# Altium integrated library ST Memory EEPROM Flash.IntLib: 1183 symbols (part 2 of 27)
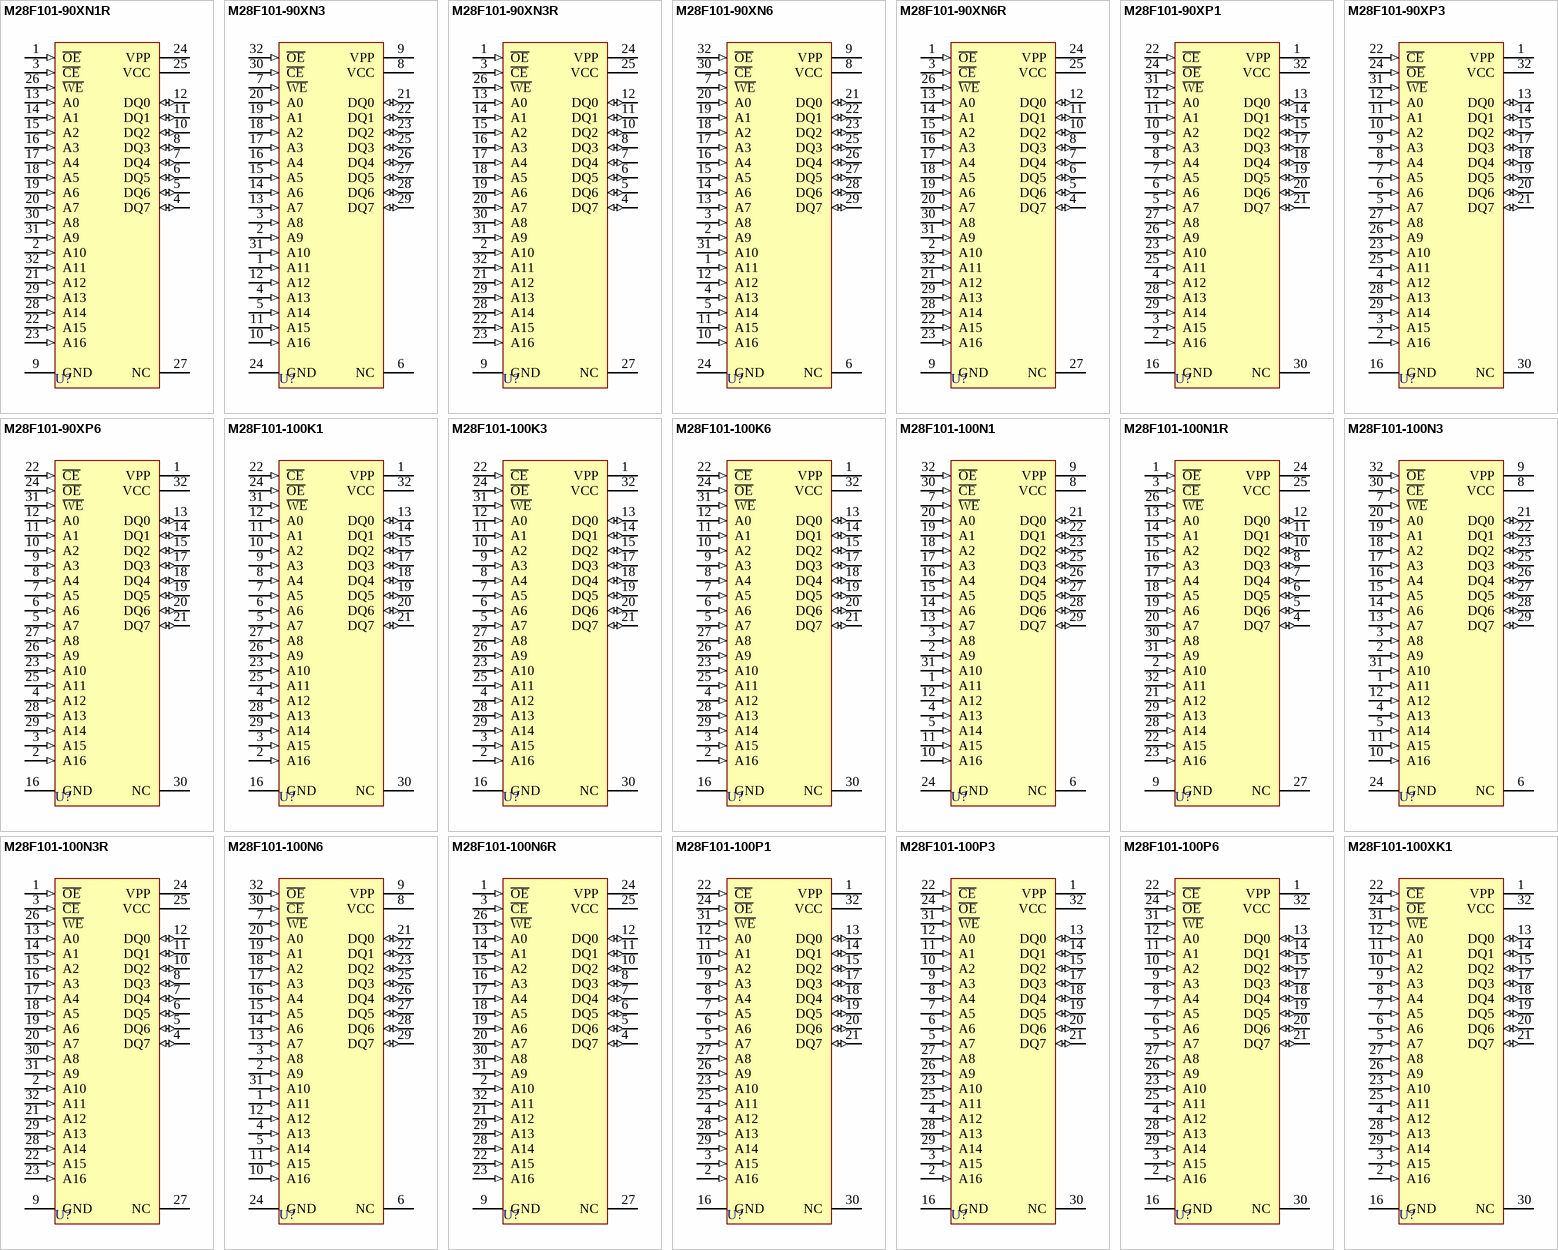
[diagram p82: symbols M28F101-90XN1R to M28F101-100XK1]

## M28F101-100K1
designator U?
1 Mbit (128K x 8, Chip Erase) Flash Memory; Published: 24-Aug-2001; LatestRevisionDate: 6-Jun-2005; LatestRevisionNote: Stylized 3D Model Added.; DatasheetDocument: Apr-1997; PackageDocument: Jun-1998; PackageReference: PLCC32; Publisher: Altium Limited; Code_JEDEC: MS-016-AE; Code_IPC: PLCC/R-32; ComponentLink1Description: Manufacturer Link; ComponentLink1URL: http://www.st.com/
footprint PLCC32 (Leaded Chip Carrier; 32 Leads; Body 11.4 x 14 mm)
3D model M28F101-PLCC32 (Leaded Chip Carrier; 32 Leads; Body 11.4 x 14 mm)
pins: 1 VPP (power), 2 A16 (in), 3 A15 (in), 4 A12 (in), 5 A7 (in), 6 A6 (in), 7 A5 (in), 8 A4 (in), 9 A3 (in), 10 A2 (in), 11 A1 (in), 12 A0 (in), 13 DQ0 (io), 14 DQ1 (io), 15 DQ2 (io), 16 GND (power), 17 DQ3 (io), 18 DQ4 (io), 19 DQ5 (io), 20 DQ6 (io), 21 DQ7 (io), 22 ~{CE} (in), 23 A10 (in), 24 ~{OE} (in), 25 A11 (in), 26 A9 (in), 27 A8 (in), 28 A13 (in), 29 A14 (in), 30 NC, 31 ~{WE} (in), 32 VCC (power)

## M28F101-100K3
designator U?
1 Mbit (128K x 8, Chip Erase) Flash Memory; Published: 24-Aug-2001; LatestRevisionDate: 6-Jun-2005; LatestRevisionNote: Stylized 3D Model Added.; DatasheetDocument: Apr-1997; PackageDocument: Jun-1998; PackageReference: PLCC32; Publisher: Altium Limited; Code_JEDEC: MS-016-AE; Code_IPC: PLCC/R-32; ComponentLink1Description: Manufacturer Link; ComponentLink1URL: http://www.st.com/
footprint PLCC32 (Leaded Chip Carrier; 32 Leads; Body 11.4 x 14 mm)
3D model M28F101-PLCC32 (Leaded Chip Carrier; 32 Leads; Body 11.4 x 14 mm)
pins: 1 VPP (power), 2 A16 (in), 3 A15 (in), 4 A12 (in), 5 A7 (in), 6 A6 (in), 7 A5 (in), 8 A4 (in), 9 A3 (in), 10 A2 (in), 11 A1 (in), 12 A0 (in), 13 DQ0 (io), 14 DQ1 (io), 15 DQ2 (io), 16 GND (power), 17 DQ3 (io), 18 DQ4 (io), 19 DQ5 (io), 20 DQ6 (io), 21 DQ7 (io), 22 ~{CE} (in), 23 A10 (in), 24 ~{OE} (in), 25 A11 (in), 26 A9 (in), 27 A8 (in), 28 A13 (in), 29 A14 (in), 30 NC, 31 ~{WE} (in), 32 VCC (power)

## M28F101-100K6
designator U?
1 Mbit (128K x 8, Chip Erase) Flash Memory; Published: 24-Aug-2001; LatestRevisionDate: 6-Jun-2005; LatestRevisionNote: Stylized 3D Model Added.; DatasheetDocument: Apr-1997; PackageDocument: Jun-1998; PackageReference: PLCC32; Publisher: Altium Limited; Code_JEDEC: MS-016-AE; Code_IPC: PLCC/R-32; ComponentLink1Description: Manufacturer Link; ComponentLink1URL: http://www.st.com/
footprint PLCC32 (Leaded Chip Carrier; 32 Leads; Body 11.4 x 14 mm)
3D model M28F101-PLCC32 (Leaded Chip Carrier; 32 Leads; Body 11.4 x 14 mm)
pins: 1 VPP (power), 2 A16 (in), 3 A15 (in), 4 A12 (in), 5 A7 (in), 6 A6 (in), 7 A5 (in), 8 A4 (in), 9 A3 (in), 10 A2 (in), 11 A1 (in), 12 A0 (in), 13 DQ0 (io), 14 DQ1 (io), 15 DQ2 (io), 16 GND (power), 17 DQ3 (io), 18 DQ4 (io), 19 DQ5 (io), 20 DQ6 (io), 21 DQ7 (io), 22 ~{CE} (in), 23 A10 (in), 24 ~{OE} (in), 25 A11 (in), 26 A9 (in), 27 A8 (in), 28 A13 (in), 29 A14 (in), 30 NC, 31 ~{WE} (in), 32 VCC (power)

## M28F101-100N1
designator U?
1 Mbit (128K x 8, Chip Erase) Flash Memory; Published: 24-Aug-2001; LatestRevisionDate: 6-Jun-2005; LatestRevisionNote: Stylized 3D Model Added.; DatasheetDocument: Apr-1997; PackageDocument: Mar-1999; PackageReference: TSOP32; Publisher: Altium Limited; Code_JEDEC: MO-142-BD; ComponentLink1Description: Manufacturer Link; ComponentLink1URL: http://www.st.com/
footprint TSOP32 (Shrink Small Outline, Plastic, Thin; 32 Leads; Body Width 18.4 mm; Pitch 0.5 mm)
3D model TSOP32 (Shrink Small Outline, Plastic, Thin; 32 Leads; Body Width 18.4 mm; Pitch 0.5 mm)
pins: 1 A11 (in), 2 A9 (in), 3 A8 (in), 4 A13 (in), 5 A14 (in), 6 NC, 7 ~{WE} (in), 8 VCC (power), 9 VPP (power), 10 A16 (in), 11 A15 (in), 12 A12 (in), 13 A7 (in), 14 A6 (in), 15 A5 (in), 16 A4 (in), 17 A3 (in), 18 A2 (in), 19 A1 (in), 20 A0 (in), 21 DQ0 (io), 22 DQ1 (io), 23 DQ2 (io), 24 GND (power), 25 DQ3 (io), 26 DQ4 (io), 27 DQ5 (io), 28 DQ6 (io), 29 DQ7 (io), 30 ~{CE} (in), 31 A10 (in), 32 ~{OE} (in)

## M28F101-100N1R
designator U?
1 Mbit (128K x 8, Chip Erase) Flash Memory; Published: 24-Aug-2001; LatestRevisionDate: 6-Jun-2005; LatestRevisionNote: Stylized 3D Model Added.; DatasheetDocument: Apr-1997; PackageDocument: Mar-1999; PackageReference: TSOP32; Publisher: Altium Limited; Code_JEDEC: MO-142-BD; ComponentLink1Description: Manufacturer Link; ComponentLink1URL: http://www.st.com/
footprint TSOP32 (Shrink Small Outline, Plastic, Thin; 32 Leads; Body Width 18.4 mm; Pitch 0.5 mm)
3D model TSOP32 (Shrink Small Outline, Plastic, Thin; 32 Leads; Body Width 18.4 mm; Pitch 0.5 mm)
pins: 1 ~{OE} (in), 2 A10 (in), 3 ~{CE} (in), 4 DQ7 (io), 5 DQ6 (io), 6 DQ5 (io), 7 DQ4 (io), 8 DQ3 (io), 9 GND (power), 10 DQ2 (io), 11 DQ1 (io), 12 DQ0 (io), 13 A0 (in), 14 A1 (in), 15 A2 (in), 16 A3 (in), 17 A4 (in), 18 A5 (in), 19 A6 (in), 20 A7 (in), 21 A12 (in), 22 A15 (in), 23 A16 (in), 24 VPP (power), 25 VCC (power), 26 ~{WE} (in), 27 NC, 28 A14 (in), 29 A13 (in), 30 A8 (in), 31 A9 (in), 32 A11 (in)

## M28F101-100N3
designator U?
1 Mbit (128K x 8, Chip Erase) Flash Memory; Published: 24-Aug-2001; LatestRevisionDate: 6-Jun-2005; LatestRevisionNote: Stylized 3D Model Added.; DatasheetDocument: Apr-1997; PackageDocument: Mar-1999; PackageReference: TSOP32; Publisher: Altium Limited; Code_JEDEC: MO-142-BD; ComponentLink1Description: Manufacturer Link; ComponentLink1URL: http://www.st.com/
footprint TSOP32 (Shrink Small Outline, Plastic, Thin; 32 Leads; Body Width 18.4 mm; Pitch 0.5 mm)
3D model TSOP32 (Shrink Small Outline, Plastic, Thin; 32 Leads; Body Width 18.4 mm; Pitch 0.5 mm)
pins: 1 A11 (in), 2 A9 (in), 3 A8 (in), 4 A13 (in), 5 A14 (in), 6 NC, 7 ~{WE} (in), 8 VCC (power), 9 VPP (power), 10 A16 (in), 11 A15 (in), 12 A12 (in), 13 A7 (in), 14 A6 (in), 15 A5 (in), 16 A4 (in), 17 A3 (in), 18 A2 (in), 19 A1 (in), 20 A0 (in), 21 DQ0 (io), 22 DQ1 (io), 23 DQ2 (io), 24 GND (power), 25 DQ3 (io), 26 DQ4 (io), 27 DQ5 (io), 28 DQ6 (io), 29 DQ7 (io), 30 ~{CE} (in), 31 A10 (in), 32 ~{OE} (in)

## M28F101-100N3R
designator U?
1 Mbit (128K x 8, Chip Erase) Flash Memory; Published: 24-Aug-2001; LatestRevisionDate: 6-Jun-2005; LatestRevisionNote: Stylized 3D Model Added.; DatasheetDocument: Apr-1997; PackageDocument: Mar-1999; PackageReference: TSOP32; Publisher: Altium Limited; Code_JEDEC: MO-142-BD; ComponentLink1Description: Manufacturer Link; ComponentLink1URL: http://www.st.com/
footprint TSOP32 (Shrink Small Outline, Plastic, Thin; 32 Leads; Body Width 18.4 mm; Pitch 0.5 mm)
3D model TSOP32 (Shrink Small Outline, Plastic, Thin; 32 Leads; Body Width 18.4 mm; Pitch 0.5 mm)
pins: 1 ~{OE} (in), 2 A10 (in), 3 ~{CE} (in), 4 DQ7 (io), 5 DQ6 (io), 6 DQ5 (io), 7 DQ4 (io), 8 DQ3 (io), 9 GND (power), 10 DQ2 (io), 11 DQ1 (io), 12 DQ0 (io), 13 A0 (in), 14 A1 (in), 15 A2 (in), 16 A3 (in), 17 A4 (in), 18 A5 (in), 19 A6 (in), 20 A7 (in), 21 A12 (in), 22 A15 (in), 23 A16 (in), 24 VPP (power), 25 VCC (power), 26 ~{WE} (in), 27 NC, 28 A14 (in), 29 A13 (in), 30 A8 (in), 31 A9 (in), 32 A11 (in)

## M28F101-100N6
designator U?
1 Mbit (128K x 8, Chip Erase) Flash Memory; Published: 24-Aug-2001; LatestRevisionDate: 6-Jun-2005; LatestRevisionNote: Stylized 3D Model Added.; DatasheetDocument: Apr-1997; PackageDocument: Mar-1999; PackageReference: TSOP32; Publisher: Altium Limited; Code_JEDEC: MO-142-BD; ComponentLink1Description: Manufacturer Link; ComponentLink1URL: http://www.st.com/
footprint TSOP32 (Shrink Small Outline, Plastic, Thin; 32 Leads; Body Width 18.4 mm; Pitch 0.5 mm)
3D model TSOP32 (Shrink Small Outline, Plastic, Thin; 32 Leads; Body Width 18.4 mm; Pitch 0.5 mm)
pins: 1 A11 (in), 2 A9 (in), 3 A8 (in), 4 A13 (in), 5 A14 (in), 6 NC, 7 ~{WE} (in), 8 VCC (power), 9 VPP (power), 10 A16 (in), 11 A15 (in), 12 A12 (in), 13 A7 (in), 14 A6 (in), 15 A5 (in), 16 A4 (in), 17 A3 (in), 18 A2 (in), 19 A1 (in), 20 A0 (in), 21 DQ0 (io), 22 DQ1 (io), 23 DQ2 (io), 24 GND (power), 25 DQ3 (io), 26 DQ4 (io), 27 DQ5 (io), 28 DQ6 (io), 29 DQ7 (io), 30 ~{CE} (in), 31 A10 (in), 32 ~{OE} (in)

## M28F101-100N6R
designator U?
1 Mbit (128K x 8, Chip Erase) Flash Memory; Published: 24-Aug-2001; LatestRevisionDate: 6-Jun-2005; LatestRevisionNote: Stylized 3D Model Added.; DatasheetDocument: Apr-1997; PackageDocument: Mar-1999; PackageReference: TSOP32; Publisher: Altium Limited; Code_JEDEC: MO-142-BD; ComponentLink1Description: Manufacturer Link; ComponentLink1URL: http://www.st.com/
footprint TSOP32 (Shrink Small Outline, Plastic, Thin; 32 Leads; Body Width 18.4 mm; Pitch 0.5 mm)
3D model TSOP32 (Shrink Small Outline, Plastic, Thin; 32 Leads; Body Width 18.4 mm; Pitch 0.5 mm)
pins: 1 ~{OE} (in), 2 A10 (in), 3 ~{CE} (in), 4 DQ7 (io), 5 DQ6 (io), 6 DQ5 (io), 7 DQ4 (io), 8 DQ3 (io), 9 GND (power), 10 DQ2 (io), 11 DQ1 (io), 12 DQ0 (io), 13 A0 (in), 14 A1 (in), 15 A2 (in), 16 A3 (in), 17 A4 (in), 18 A5 (in), 19 A6 (in), 20 A7 (in), 21 A12 (in), 22 A15 (in), 23 A16 (in), 24 VPP (power), 25 VCC (power), 26 ~{WE} (in), 27 NC, 28 A14 (in), 29 A13 (in), 30 A8 (in), 31 A9 (in), 32 A11 (in)

## M28F101-100P1
designator U?
1 Mbit (128K x 8, Chip Erase) Flash Memory; PackageDocument: 1998; Published: 24-Aug-2001; LatestRevisionDate: 6-Jun-2005; LatestRevisionNote: Stylized 3D Model Added.; DatasheetDocument: Apr-1997; PackageReference: PDIP32; Publisher: Altium Limited; ComponentLink1Description: Manufacturer Link; ComponentLink1URL: http://www.st.com/
footprint PDIP32 (DIP, Plastic; 32 Leads; Row Spacing 15.24 mm; Pitch 2.54 mm)
3D model PDIP32 (DIP, Plastic; 32 Leads; Row Spacing 15.24 mm; Pitch 2.54 mm)
pins: 1 VPP (power), 2 A16 (in), 3 A15 (in), 4 A12 (in), 5 A7 (in), 6 A6 (in), 7 A5 (in), 8 A4 (in), 9 A3 (in), 10 A2 (in), 11 A1 (in), 12 A0 (in), 13 DQ0 (io), 14 DQ1 (io), 15 DQ2 (io), 16 GND (power), 17 DQ3 (io), 18 DQ4 (io), 19 DQ5 (io), 20 DQ6 (io), 21 DQ7 (io), 22 ~{CE} (in), 23 A10 (in), 24 ~{OE} (in), 25 A11 (in), 26 A9 (in), 27 A8 (in), 28 A13 (in), 29 A14 (in), 30 NC, 31 ~{WE} (in), 32 VCC (power)

## M28F101-100P3
designator U?
1 Mbit (128K x 8, Chip Erase) Flash Memory; PackageDocument: 1998; Published: 24-Aug-2001; LatestRevisionDate: 6-Jun-2005; LatestRevisionNote: Stylized 3D Model Added.; DatasheetDocument: Apr-1997; PackageReference: PDIP32; Publisher: Altium Limited; ComponentLink1Description: Manufacturer Link; ComponentLink1URL: http://www.st.com/
footprint PDIP32 (DIP, Plastic; 32 Leads; Row Spacing 15.24 mm; Pitch 2.54 mm)
3D model PDIP32 (DIP, Plastic; 32 Leads; Row Spacing 15.24 mm; Pitch 2.54 mm)
pins: 1 VPP (power), 2 A16 (in), 3 A15 (in), 4 A12 (in), 5 A7 (in), 6 A6 (in), 7 A5 (in), 8 A4 (in), 9 A3 (in), 10 A2 (in), 11 A1 (in), 12 A0 (in), 13 DQ0 (io), 14 DQ1 (io), 15 DQ2 (io), 16 GND (power), 17 DQ3 (io), 18 DQ4 (io), 19 DQ5 (io), 20 DQ6 (io), 21 DQ7 (io), 22 ~{CE} (in), 23 A10 (in), 24 ~{OE} (in), 25 A11 (in), 26 A9 (in), 27 A8 (in), 28 A13 (in), 29 A14 (in), 30 NC, 31 ~{WE} (in), 32 VCC (power)

## M28F101-100P6
designator U?
1 Mbit (128K x 8, Chip Erase) Flash Memory; PackageDocument: 1998; Published: 24-Aug-2001; LatestRevisionDate: 6-Jun-2005; LatestRevisionNote: Stylized 3D Model Added.; DatasheetDocument: Apr-1997; PackageReference: PDIP32; Publisher: Altium Limited; ComponentLink1Description: Manufacturer Link; ComponentLink1URL: http://www.st.com/
footprint PDIP32 (DIP, Plastic; 32 Leads; Row Spacing 15.24 mm; Pitch 2.54 mm)
3D model PDIP32 (DIP, Plastic; 32 Leads; Row Spacing 15.24 mm; Pitch 2.54 mm)
pins: 1 VPP (power), 2 A16 (in), 3 A15 (in), 4 A12 (in), 5 A7 (in), 6 A6 (in), 7 A5 (in), 8 A4 (in), 9 A3 (in), 10 A2 (in), 11 A1 (in), 12 A0 (in), 13 DQ0 (io), 14 DQ1 (io), 15 DQ2 (io), 16 GND (power), 17 DQ3 (io), 18 DQ4 (io), 19 DQ5 (io), 20 DQ6 (io), 21 DQ7 (io), 22 ~{CE} (in), 23 A10 (in), 24 ~{OE} (in), 25 A11 (in), 26 A9 (in), 27 A8 (in), 28 A13 (in), 29 A14 (in), 30 NC, 31 ~{WE} (in), 32 VCC (power)

## M28F101-100XK1
designator U?
1 Mbit (128K x 8, Chip Erase) Flash Memory; Published: 24-Aug-2001; LatestRevisionDate: 6-Jun-2005; LatestRevisionNote: Stylized 3D Model Added.; DatasheetDocument: Apr-1997; PackageDocument: Jun-1998; PackageReference: PLCC32; Publisher: Altium Limited; Code_JEDEC: MS-016-AE; Code_IPC: PLCC/R-32; ComponentLink1Description: Manufacturer Link; ComponentLink1URL: http://www.st.com/
footprint PLCC32 (Leaded Chip Carrier; 32 Leads; Body 11.4 x 14 mm)
3D model M28F101-PLCC32 (Leaded Chip Carrier; 32 Leads; Body 11.4 x 14 mm)
pins: 1 VPP (power), 2 A16 (in), 3 A15 (in), 4 A12 (in), 5 A7 (in), 6 A6 (in), 7 A5 (in), 8 A4 (in), 9 A3 (in), 10 A2 (in), 11 A1 (in), 12 A0 (in), 13 DQ0 (io), 14 DQ1 (io), 15 DQ2 (io), 16 GND (power), 17 DQ3 (io), 18 DQ4 (io), 19 DQ5 (io), 20 DQ6 (io), 21 DQ7 (io), 22 ~{CE} (in), 23 A10 (in), 24 ~{OE} (in), 25 A11 (in), 26 A9 (in), 27 A8 (in), 28 A13 (in), 29 A14 (in), 30 NC, 31 ~{WE} (in), 32 VCC (power)

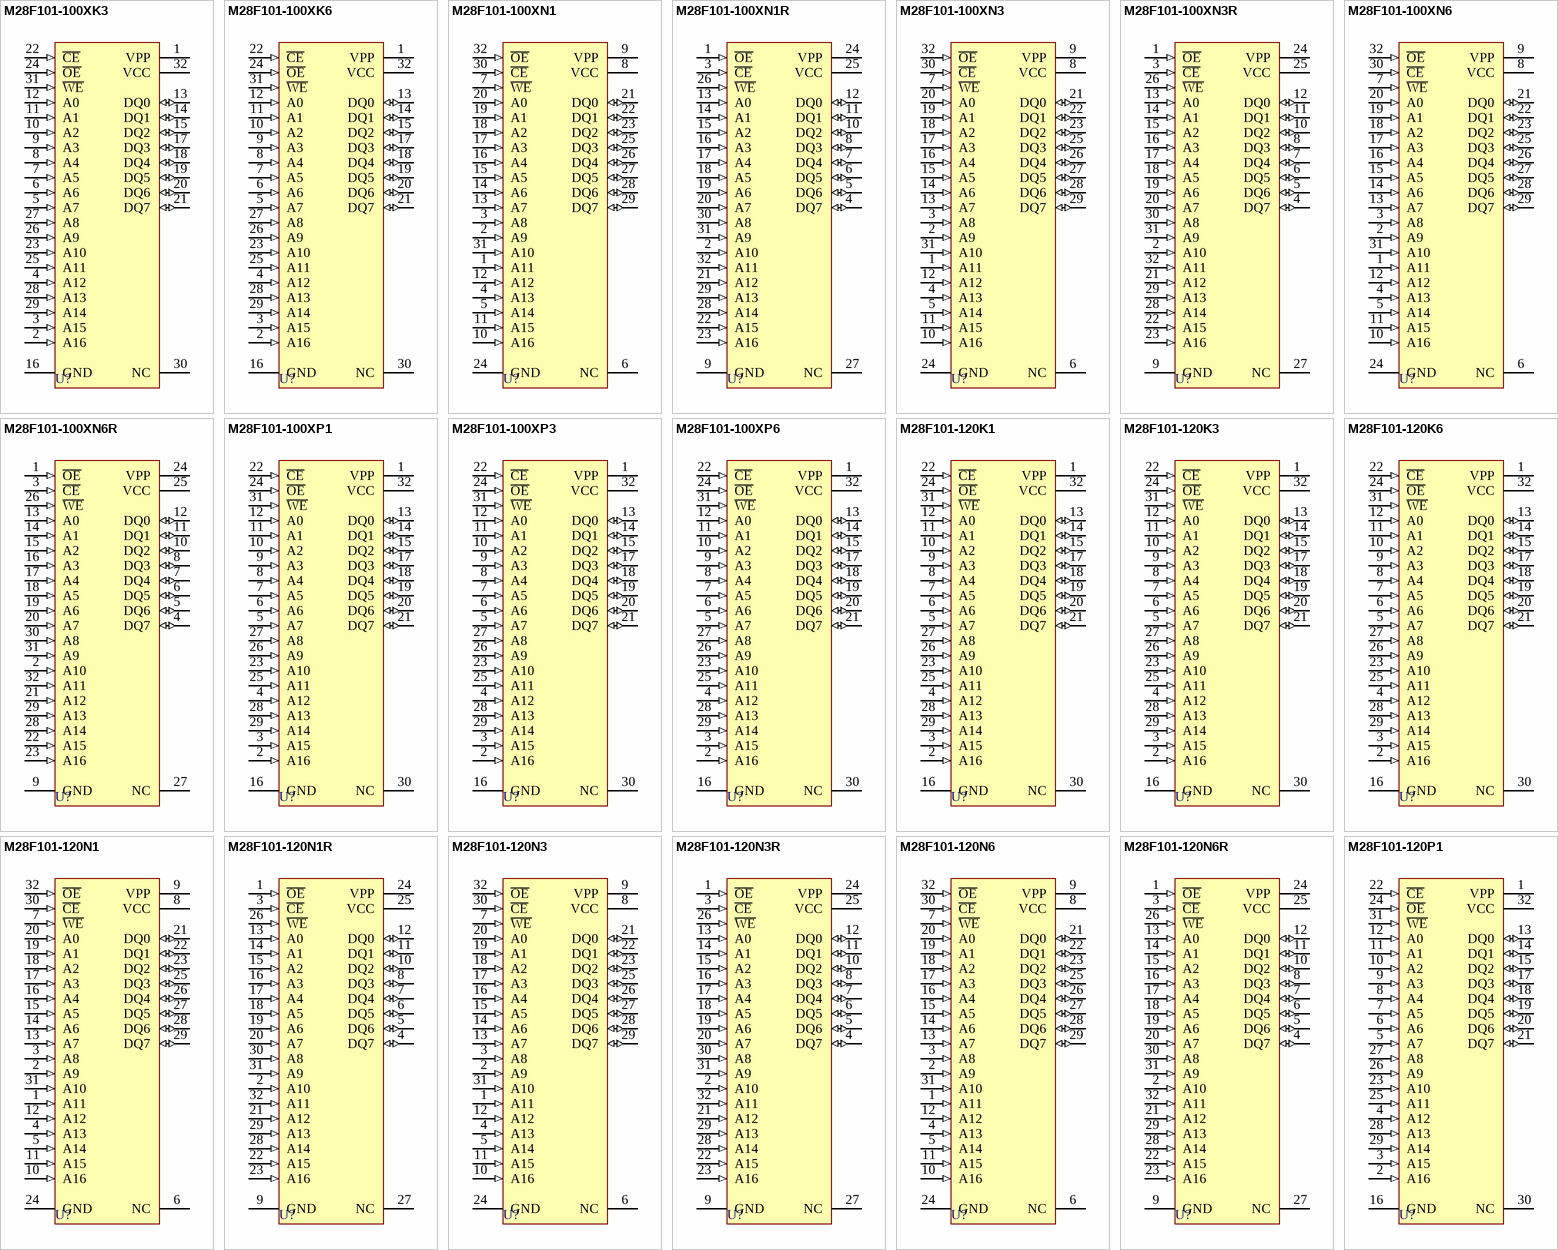
[diagram p3: symbols M28F101-100XK3 to M28F101-120P1]

## M28F101-100XK3
designator U?
1 Mbit (128K x 8, Chip Erase) Flash Memory; Published: 24-Aug-2001; LatestRevisionDate: 6-Jun-2005; LatestRevisionNote: Stylized 3D Model Added.; DatasheetDocument: Apr-1997; PackageDocument: Jun-1998; PackageReference: PLCC32; Publisher: Altium Limited; Code_JEDEC: MS-016-AE; Code_IPC: PLCC/R-32; ComponentLink1Description: Manufacturer Link; ComponentLink1URL: http://www.st.com/
footprint PLCC32 (Leaded Chip Carrier; 32 Leads; Body 11.4 x 14 mm)
3D model M28F101-PLCC32 (Leaded Chip Carrier; 32 Leads; Body 11.4 x 14 mm)
pins: 1 VPP (power), 2 A16 (in), 3 A15 (in), 4 A12 (in), 5 A7 (in), 6 A6 (in), 7 A5 (in), 8 A4 (in), 9 A3 (in), 10 A2 (in), 11 A1 (in), 12 A0 (in), 13 DQ0 (io), 14 DQ1 (io), 15 DQ2 (io), 16 GND (power), 17 DQ3 (io), 18 DQ4 (io), 19 DQ5 (io), 20 DQ6 (io), 21 DQ7 (io), 22 ~{CE} (in), 23 A10 (in), 24 ~{OE} (in), 25 A11 (in), 26 A9 (in), 27 A8 (in), 28 A13 (in), 29 A14 (in), 30 NC, 31 ~{WE} (in), 32 VCC (power)

## M28F101-100XK6
designator U?
1 Mbit (128K x 8, Chip Erase) Flash Memory; Published: 24-Aug-2001; LatestRevisionDate: 6-Jun-2005; LatestRevisionNote: Stylized 3D Model Added.; DatasheetDocument: Apr-1997; PackageDocument: Jun-1998; PackageReference: PLCC32; Publisher: Altium Limited; Code_JEDEC: MS-016-AE; Code_IPC: PLCC/R-32; ComponentLink1Description: Manufacturer Link; ComponentLink1URL: http://www.st.com/
footprint PLCC32 (Leaded Chip Carrier; 32 Leads; Body 11.4 x 14 mm)
3D model M28F101-PLCC32 (Leaded Chip Carrier; 32 Leads; Body 11.4 x 14 mm)
pins: 1 VPP (power), 2 A16 (in), 3 A15 (in), 4 A12 (in), 5 A7 (in), 6 A6 (in), 7 A5 (in), 8 A4 (in), 9 A3 (in), 10 A2 (in), 11 A1 (in), 12 A0 (in), 13 DQ0 (io), 14 DQ1 (io), 15 DQ2 (io), 16 GND (power), 17 DQ3 (io), 18 DQ4 (io), 19 DQ5 (io), 20 DQ6 (io), 21 DQ7 (io), 22 ~{CE} (in), 23 A10 (in), 24 ~{OE} (in), 25 A11 (in), 26 A9 (in), 27 A8 (in), 28 A13 (in), 29 A14 (in), 30 NC, 31 ~{WE} (in), 32 VCC (power)

## M28F101-100XN1
designator U?
1 Mbit (128K x 8, Chip Erase) Flash Memory; Published: 24-Aug-2001; LatestRevisionDate: 6-Jun-2005; LatestRevisionNote: Stylized 3D Model Added.; DatasheetDocument: Apr-1997; PackageDocument: Mar-1999; PackageReference: TSOP32; Publisher: Altium Limited; Code_JEDEC: MO-142-BD; ComponentLink1Description: Manufacturer Link; ComponentLink1URL: http://www.st.com/
footprint TSOP32 (Shrink Small Outline, Plastic, Thin; 32 Leads; Body Width 18.4 mm; Pitch 0.5 mm)
3D model TSOP32 (Shrink Small Outline, Plastic, Thin; 32 Leads; Body Width 18.4 mm; Pitch 0.5 mm)
pins: 1 A11 (in), 2 A9 (in), 3 A8 (in), 4 A13 (in), 5 A14 (in), 6 NC, 7 ~{WE} (in), 8 VCC (power), 9 VPP (power), 10 A16 (in), 11 A15 (in), 12 A12 (in), 13 A7 (in), 14 A6 (in), 15 A5 (in), 16 A4 (in), 17 A3 (in), 18 A2 (in), 19 A1 (in), 20 A0 (in), 21 DQ0 (io), 22 DQ1 (io), 23 DQ2 (io), 24 GND (power), 25 DQ3 (io), 26 DQ4 (io), 27 DQ5 (io), 28 DQ6 (io), 29 DQ7 (io), 30 ~{CE} (in), 31 A10 (in), 32 ~{OE} (in)

## M28F101-100XN1R
designator U?
1 Mbit (128K x 8, Chip Erase) Flash Memory; Published: 24-Aug-2001; LatestRevisionDate: 6-Jun-2005; LatestRevisionNote: Stylized 3D Model Added.; DatasheetDocument: Apr-1997; PackageDocument: Mar-1999; PackageReference: TSOP32; Publisher: Altium Limited; Code_JEDEC: MO-142-BD; ComponentLink1Description: Manufacturer Link; ComponentLink1URL: http://www.st.com/
footprint TSOP32 (Shrink Small Outline, Plastic, Thin; 32 Leads; Body Width 18.4 mm; Pitch 0.5 mm)
3D model TSOP32 (Shrink Small Outline, Plastic, Thin; 32 Leads; Body Width 18.4 mm; Pitch 0.5 mm)
pins: 1 ~{OE} (in), 2 A10 (in), 3 ~{CE} (in), 4 DQ7 (io), 5 DQ6 (io), 6 DQ5 (io), 7 DQ4 (io), 8 DQ3 (io), 9 GND (power), 10 DQ2 (io), 11 DQ1 (io), 12 DQ0 (io), 13 A0 (in), 14 A1 (in), 15 A2 (in), 16 A3 (in), 17 A4 (in), 18 A5 (in), 19 A6 (in), 20 A7 (in), 21 A12 (in), 22 A15 (in), 23 A16 (in), 24 VPP (power), 25 VCC (power), 26 ~{WE} (in), 27 NC, 28 A14 (in), 29 A13 (in), 30 A8 (in), 31 A9 (in), 32 A11 (in)

## M28F101-100XN3
designator U?
1 Mbit (128K x 8, Chip Erase) Flash Memory; Published: 24-Aug-2001; LatestRevisionDate: 6-Jun-2005; LatestRevisionNote: Stylized 3D Model Added.; DatasheetDocument: Apr-1997; PackageDocument: Mar-1999; PackageReference: TSOP32; Publisher: Altium Limited; Code_JEDEC: MO-142-BD; ComponentLink1Description: Manufacturer Link; ComponentLink1URL: http://www.st.com/
footprint TSOP32 (Shrink Small Outline, Plastic, Thin; 32 Leads; Body Width 18.4 mm; Pitch 0.5 mm)
3D model TSOP32 (Shrink Small Outline, Plastic, Thin; 32 Leads; Body Width 18.4 mm; Pitch 0.5 mm)
pins: 1 A11 (in), 2 A9 (in), 3 A8 (in), 4 A13 (in), 5 A14 (in), 6 NC, 7 ~{WE} (in), 8 VCC (power), 9 VPP (power), 10 A16 (in), 11 A15 (in), 12 A12 (in), 13 A7 (in), 14 A6 (in), 15 A5 (in), 16 A4 (in), 17 A3 (in), 18 A2 (in), 19 A1 (in), 20 A0 (in), 21 DQ0 (io), 22 DQ1 (io), 23 DQ2 (io), 24 GND (power), 25 DQ3 (io), 26 DQ4 (io), 27 DQ5 (io), 28 DQ6 (io), 29 DQ7 (io), 30 ~{CE} (in), 31 A10 (in), 32 ~{OE} (in)

## M28F101-100XN3R
designator U?
1 Mbit (128K x 8, Chip Erase) Flash Memory; Published: 24-Aug-2001; LatestRevisionDate: 6-Jun-2005; LatestRevisionNote: Stylized 3D Model Added.; DatasheetDocument: Apr-1997; PackageDocument: Mar-1999; PackageReference: TSOP32; Publisher: Altium Limited; Code_JEDEC: MO-142-BD; ComponentLink1Description: Manufacturer Link; ComponentLink1URL: http://www.st.com/
footprint TSOP32 (Shrink Small Outline, Plastic, Thin; 32 Leads; Body Width 18.4 mm; Pitch 0.5 mm)
3D model TSOP32 (Shrink Small Outline, Plastic, Thin; 32 Leads; Body Width 18.4 mm; Pitch 0.5 mm)
pins: 1 ~{OE} (in), 2 A10 (in), 3 ~{CE} (in), 4 DQ7 (io), 5 DQ6 (io), 6 DQ5 (io), 7 DQ4 (io), 8 DQ3 (io), 9 GND (power), 10 DQ2 (io), 11 DQ1 (io), 12 DQ0 (io), 13 A0 (in), 14 A1 (in), 15 A2 (in), 16 A3 (in), 17 A4 (in), 18 A5 (in), 19 A6 (in), 20 A7 (in), 21 A12 (in), 22 A15 (in), 23 A16 (in), 24 VPP (power), 25 VCC (power), 26 ~{WE} (in), 27 NC, 28 A14 (in), 29 A13 (in), 30 A8 (in), 31 A9 (in), 32 A11 (in)

## M28F101-100XN6
designator U?
1 Mbit (128K x 8, Chip Erase) Flash Memory; Published: 24-Aug-2001; LatestRevisionDate: 6-Jun-2005; LatestRevisionNote: Stylized 3D Model Added.; DatasheetDocument: Apr-1997; PackageDocument: Mar-1999; PackageReference: TSOP32; Publisher: Altium Limited; Code_JEDEC: MO-142-BD; ComponentLink1Description: Manufacturer Link; ComponentLink1URL: http://www.st.com/
footprint TSOP32 (Shrink Small Outline, Plastic, Thin; 32 Leads; Body Width 18.4 mm; Pitch 0.5 mm)
3D model TSOP32 (Shrink Small Outline, Plastic, Thin; 32 Leads; Body Width 18.4 mm; Pitch 0.5 mm)
pins: 1 A11 (in), 2 A9 (in), 3 A8 (in), 4 A13 (in), 5 A14 (in), 6 NC, 7 ~{WE} (in), 8 VCC (power), 9 VPP (power), 10 A16 (in), 11 A15 (in), 12 A12 (in), 13 A7 (in), 14 A6 (in), 15 A5 (in), 16 A4 (in), 17 A3 (in), 18 A2 (in), 19 A1 (in), 20 A0 (in), 21 DQ0 (io), 22 DQ1 (io), 23 DQ2 (io), 24 GND (power), 25 DQ3 (io), 26 DQ4 (io), 27 DQ5 (io), 28 DQ6 (io), 29 DQ7 (io), 30 ~{CE} (in), 31 A10 (in), 32 ~{OE} (in)

## M28F101-100XN6R
designator U?
1 Mbit (128K x 8, Chip Erase) Flash Memory; Published: 24-Aug-2001; LatestRevisionDate: 6-Jun-2005; LatestRevisionNote: Stylized 3D Model Added.; DatasheetDocument: Apr-1997; PackageDocument: Mar-1999; PackageReference: TSOP32; Publisher: Altium Limited; Code_JEDEC: MO-142-BD; ComponentLink1Description: Manufacturer Link; ComponentLink1URL: http://www.st.com/
footprint TSOP32 (Shrink Small Outline, Plastic, Thin; 32 Leads; Body Width 18.4 mm; Pitch 0.5 mm)
3D model TSOP32 (Shrink Small Outline, Plastic, Thin; 32 Leads; Body Width 18.4 mm; Pitch 0.5 mm)
pins: 1 ~{OE} (in), 2 A10 (in), 3 ~{CE} (in), 4 DQ7 (io), 5 DQ6 (io), 6 DQ5 (io), 7 DQ4 (io), 8 DQ3 (io), 9 GND (power), 10 DQ2 (io), 11 DQ1 (io), 12 DQ0 (io), 13 A0 (in), 14 A1 (in), 15 A2 (in), 16 A3 (in), 17 A4 (in), 18 A5 (in), 19 A6 (in), 20 A7 (in), 21 A12 (in), 22 A15 (in), 23 A16 (in), 24 VPP (power), 25 VCC (power), 26 ~{WE} (in), 27 NC, 28 A14 (in), 29 A13 (in), 30 A8 (in), 31 A9 (in), 32 A11 (in)

## M28F101-100XP1
designator U?
1 Mbit (128K x 8, Chip Erase) Flash Memory; PackageDocument: 1998; Published: 24-Aug-2001; LatestRevisionDate: 6-Jun-2005; LatestRevisionNote: Stylized 3D Model Added.; DatasheetDocument: Apr-1997; PackageReference: PDIP32; Publisher: Altium Limited; ComponentLink1Description: Manufacturer Link; ComponentLink1URL: http://www.st.com/
footprint PDIP32 (DIP, Plastic; 32 Leads; Row Spacing 15.24 mm; Pitch 2.54 mm)
3D model PDIP32 (DIP, Plastic; 32 Leads; Row Spacing 15.24 mm; Pitch 2.54 mm)
pins: 1 VPP (power), 2 A16 (in), 3 A15 (in), 4 A12 (in), 5 A7 (in), 6 A6 (in), 7 A5 (in), 8 A4 (in), 9 A3 (in), 10 A2 (in), 11 A1 (in), 12 A0 (in), 13 DQ0 (io), 14 DQ1 (io), 15 DQ2 (io), 16 GND (power), 17 DQ3 (io), 18 DQ4 (io), 19 DQ5 (io), 20 DQ6 (io), 21 DQ7 (io), 22 ~{CE} (in), 23 A10 (in), 24 ~{OE} (in), 25 A11 (in), 26 A9 (in), 27 A8 (in), 28 A13 (in), 29 A14 (in), 30 NC, 31 ~{WE} (in), 32 VCC (power)

## M28F101-100XP3
designator U?
1 Mbit (128K x 8, Chip Erase) Flash Memory; PackageDocument: 1998; Published: 24-Aug-2001; LatestRevisionDate: 6-Jun-2005; LatestRevisionNote: Stylized 3D Model Added.; DatasheetDocument: Apr-1997; PackageReference: PDIP32; Publisher: Altium Limited; ComponentLink1Description: Manufacturer Link; ComponentLink1URL: http://www.st.com/
footprint PDIP32 (DIP, Plastic; 32 Leads; Row Spacing 15.24 mm; Pitch 2.54 mm)
3D model PDIP32 (DIP, Plastic; 32 Leads; Row Spacing 15.24 mm; Pitch 2.54 mm)
pins: 1 VPP (power), 2 A16 (in), 3 A15 (in), 4 A12 (in), 5 A7 (in), 6 A6 (in), 7 A5 (in), 8 A4 (in), 9 A3 (in), 10 A2 (in), 11 A1 (in), 12 A0 (in), 13 DQ0 (io), 14 DQ1 (io), 15 DQ2 (io), 16 GND (power), 17 DQ3 (io), 18 DQ4 (io), 19 DQ5 (io), 20 DQ6 (io), 21 DQ7 (io), 22 ~{CE} (in), 23 A10 (in), 24 ~{OE} (in), 25 A11 (in), 26 A9 (in), 27 A8 (in), 28 A13 (in), 29 A14 (in), 30 NC, 31 ~{WE} (in), 32 VCC (power)

## M28F101-100XP6
designator U?
1 Mbit (128K x 8, Chip Erase) Flash Memory; PackageDocument: 1998; Published: 24-Aug-2001; LatestRevisionDate: 6-Jun-2005; LatestRevisionNote: Stylized 3D Model Added.; DatasheetDocument: Apr-1997; PackageReference: PDIP32; Publisher: Altium Limited; ComponentLink1Description: Manufacturer Link; ComponentLink1URL: http://www.st.com/
footprint PDIP32 (DIP, Plastic; 32 Leads; Row Spacing 15.24 mm; Pitch 2.54 mm)
3D model PDIP32 (DIP, Plastic; 32 Leads; Row Spacing 15.24 mm; Pitch 2.54 mm)
pins: 1 VPP (power), 2 A16 (in), 3 A15 (in), 4 A12 (in), 5 A7 (in), 6 A6 (in), 7 A5 (in), 8 A4 (in), 9 A3 (in), 10 A2 (in), 11 A1 (in), 12 A0 (in), 13 DQ0 (io), 14 DQ1 (io), 15 DQ2 (io), 16 GND (power), 17 DQ3 (io), 18 DQ4 (io), 19 DQ5 (io), 20 DQ6 (io), 21 DQ7 (io), 22 ~{CE} (in), 23 A10 (in), 24 ~{OE} (in), 25 A11 (in), 26 A9 (in), 27 A8 (in), 28 A13 (in), 29 A14 (in), 30 NC, 31 ~{WE} (in), 32 VCC (power)

## M28F101-120K1
designator U?
1 Mbit (128K x 8, Chip Erase) Flash Memory; Published: 24-Aug-2001; LatestRevisionDate: 6-Jun-2005; LatestRevisionNote: Stylized 3D Model Added.; DatasheetDocument: Apr-1997; PackageDocument: Jun-1998; PackageReference: PLCC32; Publisher: Altium Limited; Code_JEDEC: MS-016-AE; Code_IPC: PLCC/R-32; ComponentLink1Description: Manufacturer Link; ComponentLink1URL: http://www.st.com/
footprint PLCC32 (Leaded Chip Carrier; 32 Leads; Body 11.4 x 14 mm)
3D model M28F101-PLCC32 (Leaded Chip Carrier; 32 Leads; Body 11.4 x 14 mm)
pins: 1 VPP (power), 2 A16 (in), 3 A15 (in), 4 A12 (in), 5 A7 (in), 6 A6 (in), 7 A5 (in), 8 A4 (in), 9 A3 (in), 10 A2 (in), 11 A1 (in), 12 A0 (in), 13 DQ0 (io), 14 DQ1 (io), 15 DQ2 (io), 16 GND (power), 17 DQ3 (io), 18 DQ4 (io), 19 DQ5 (io), 20 DQ6 (io), 21 DQ7 (io), 22 ~{CE} (in), 23 A10 (in), 24 ~{OE} (in), 25 A11 (in), 26 A9 (in), 27 A8 (in), 28 A13 (in), 29 A14 (in), 30 NC, 31 ~{WE} (in), 32 VCC (power)

## M28F101-120K3
designator U?
1 Mbit (128K x 8, Chip Erase) Flash Memory; Published: 24-Aug-2001; LatestRevisionDate: 6-Jun-2005; LatestRevisionNote: Stylized 3D Model Added.; DatasheetDocument: Apr-1997; PackageDocument: Jun-1998; PackageReference: PLCC32; Publisher: Altium Limited; Code_JEDEC: MS-016-AE; Code_IPC: PLCC/R-32; ComponentLink1Description: Manufacturer Link; ComponentLink1URL: http://www.st.com/
footprint PLCC32 (Leaded Chip Carrier; 32 Leads; Body 11.4 x 14 mm)
3D model M28F101-PLCC32 (Leaded Chip Carrier; 32 Leads; Body 11.4 x 14 mm)
pins: 1 VPP (power), 2 A16 (in), 3 A15 (in), 4 A12 (in), 5 A7 (in), 6 A6 (in), 7 A5 (in), 8 A4 (in), 9 A3 (in), 10 A2 (in), 11 A1 (in), 12 A0 (in), 13 DQ0 (io), 14 DQ1 (io), 15 DQ2 (io), 16 GND (power), 17 DQ3 (io), 18 DQ4 (io), 19 DQ5 (io), 20 DQ6 (io), 21 DQ7 (io), 22 ~{CE} (in), 23 A10 (in), 24 ~{OE} (in), 25 A11 (in), 26 A9 (in), 27 A8 (in), 28 A13 (in), 29 A14 (in), 30 NC, 31 ~{WE} (in), 32 VCC (power)

## M28F101-120K6
designator U?
1 Mbit (128K x 8, Chip Erase) Flash Memory; Published: 24-Aug-2001; LatestRevisionDate: 6-Jun-2005; LatestRevisionNote: Stylized 3D Model Added.; DatasheetDocument: Apr-1997; PackageDocument: Jun-1998; PackageReference: PLCC32; Publisher: Altium Limited; Code_JEDEC: MS-016-AE; Code_IPC: PLCC/R-32; ComponentLink1Description: Manufacturer Link; ComponentLink1URL: http://www.st.com/
footprint PLCC32 (Leaded Chip Carrier; 32 Leads; Body 11.4 x 14 mm)
3D model M28F101-PLCC32 (Leaded Chip Carrier; 32 Leads; Body 11.4 x 14 mm)
pins: 1 VPP (power), 2 A16 (in), 3 A15 (in), 4 A12 (in), 5 A7 (in), 6 A6 (in), 7 A5 (in), 8 A4 (in), 9 A3 (in), 10 A2 (in), 11 A1 (in), 12 A0 (in), 13 DQ0 (io), 14 DQ1 (io), 15 DQ2 (io), 16 GND (power), 17 DQ3 (io), 18 DQ4 (io), 19 DQ5 (io), 20 DQ6 (io), 21 DQ7 (io), 22 ~{CE} (in), 23 A10 (in), 24 ~{OE} (in), 25 A11 (in), 26 A9 (in), 27 A8 (in), 28 A13 (in), 29 A14 (in), 30 NC, 31 ~{WE} (in), 32 VCC (power)

## M28F101-120N1
designator U?
1 Mbit (128K x 8, Chip Erase) Flash Memory; Published: 24-Aug-2001; LatestRevisionDate: 6-Jun-2005; LatestRevisionNote: Stylized 3D Model Added.; DatasheetDocument: Apr-1997; PackageDocument: Mar-1999; PackageReference: TSOP32; Publisher: Altium Limited; Code_JEDEC: MO-142-BD; ComponentLink1Description: Manufacturer Link; ComponentLink1URL: http://www.st.com/
footprint TSOP32 (Shrink Small Outline, Plastic, Thin; 32 Leads; Body Width 18.4 mm; Pitch 0.5 mm)
3D model TSOP32 (Shrink Small Outline, Plastic, Thin; 32 Leads; Body Width 18.4 mm; Pitch 0.5 mm)
pins: 1 A11 (in), 2 A9 (in), 3 A8 (in), 4 A13 (in), 5 A14 (in), 6 NC, 7 ~{WE} (in), 8 VCC (power), 9 VPP (power), 10 A16 (in), 11 A15 (in), 12 A12 (in), 13 A7 (in), 14 A6 (in), 15 A5 (in), 16 A4 (in), 17 A3 (in), 18 A2 (in), 19 A1 (in), 20 A0 (in), 21 DQ0 (io), 22 DQ1 (io), 23 DQ2 (io), 24 GND (power), 25 DQ3 (io), 26 DQ4 (io), 27 DQ5 (io), 28 DQ6 (io), 29 DQ7 (io), 30 ~{CE} (in), 31 A10 (in), 32 ~{OE} (in)

## M28F101-120N1R
designator U?
1 Mbit (128K x 8, Chip Erase) Flash Memory; Published: 24-Aug-2001; LatestRevisionDate: 6-Jun-2005; LatestRevisionNote: Stylized 3D Model Added.; DatasheetDocument: Apr-1997; PackageDocument: Mar-1999; PackageReference: TSOP32; Publisher: Altium Limited; Code_JEDEC: MO-142-BD; ComponentLink1Description: Manufacturer Link; ComponentLink1URL: http://www.st.com/
footprint TSOP32 (Shrink Small Outline, Plastic, Thin; 32 Leads; Body Width 18.4 mm; Pitch 0.5 mm)
3D model TSOP32 (Shrink Small Outline, Plastic, Thin; 32 Leads; Body Width 18.4 mm; Pitch 0.5 mm)
pins: 1 ~{OE} (in), 2 A10 (in), 3 ~{CE} (in), 4 DQ7 (io), 5 DQ6 (io), 6 DQ5 (io), 7 DQ4 (io), 8 DQ3 (io), 9 GND (power), 10 DQ2 (io), 11 DQ1 (io), 12 DQ0 (io), 13 A0 (in), 14 A1 (in), 15 A2 (in), 16 A3 (in), 17 A4 (in), 18 A5 (in), 19 A6 (in), 20 A7 (in), 21 A12 (in), 22 A15 (in), 23 A16 (in), 24 VPP (power), 25 VCC (power), 26 ~{WE} (in), 27 NC, 28 A14 (in), 29 A13 (in), 30 A8 (in), 31 A9 (in), 32 A11 (in)

## M28F101-120N3
designator U?
1 Mbit (128K x 8, Chip Erase) Flash Memory; Published: 24-Aug-2001; LatestRevisionDate: 6-Jun-2005; LatestRevisionNote: Stylized 3D Model Added.; DatasheetDocument: Apr-1997; PackageDocument: Mar-1999; PackageReference: TSOP32; Publisher: Altium Limited; Code_JEDEC: MO-142-BD; ComponentLink1Description: Manufacturer Link; ComponentLink1URL: http://www.st.com/
footprint TSOP32 (Shrink Small Outline, Plastic, Thin; 32 Leads; Body Width 18.4 mm; Pitch 0.5 mm)
3D model TSOP32 (Shrink Small Outline, Plastic, Thin; 32 Leads; Body Width 18.4 mm; Pitch 0.5 mm)
pins: 1 A11 (in), 2 A9 (in), 3 A8 (in), 4 A13 (in), 5 A14 (in), 6 NC, 7 ~{WE} (in), 8 VCC (power), 9 VPP (power), 10 A16 (in), 11 A15 (in), 12 A12 (in), 13 A7 (in), 14 A6 (in), 15 A5 (in), 16 A4 (in), 17 A3 (in), 18 A2 (in), 19 A1 (in), 20 A0 (in), 21 DQ0 (io), 22 DQ1 (io), 23 DQ2 (io), 24 GND (power), 25 DQ3 (io), 26 DQ4 (io), 27 DQ5 (io), 28 DQ6 (io), 29 DQ7 (io), 30 ~{CE} (in), 31 A10 (in), 32 ~{OE} (in)

## M28F101-120N3R
designator U?
1 Mbit (128K x 8, Chip Erase) Flash Memory; Published: 24-Aug-2001; LatestRevisionDate: 6-Jun-2005; LatestRevisionNote: Stylized 3D Model Added.; DatasheetDocument: Apr-1997; PackageDocument: Mar-1999; PackageReference: TSOP32; Publisher: Altium Limited; Code_JEDEC: MO-142-BD; ComponentLink1Description: Manufacturer Link; ComponentLink1URL: http://www.st.com/
footprint TSOP32 (Shrink Small Outline, Plastic, Thin; 32 Leads; Body Width 18.4 mm; Pitch 0.5 mm)
3D model TSOP32 (Shrink Small Outline, Plastic, Thin; 32 Leads; Body Width 18.4 mm; Pitch 0.5 mm)
pins: 1 ~{OE} (in), 2 A10 (in), 3 ~{CE} (in), 4 DQ7 (io), 5 DQ6 (io), 6 DQ5 (io), 7 DQ4 (io), 8 DQ3 (io), 9 GND (power), 10 DQ2 (io), 11 DQ1 (io), 12 DQ0 (io), 13 A0 (in), 14 A1 (in), 15 A2 (in), 16 A3 (in), 17 A4 (in), 18 A5 (in), 19 A6 (in), 20 A7 (in), 21 A12 (in), 22 A15 (in), 23 A16 (in), 24 VPP (power), 25 VCC (power), 26 ~{WE} (in), 27 NC, 28 A14 (in), 29 A13 (in), 30 A8 (in), 31 A9 (in), 32 A11 (in)

## M28F101-120N6
designator U?
1 Mbit (128K x 8, Chip Erase) Flash Memory; Published: 24-Aug-2001; LatestRevisionDate: 6-Jun-2005; LatestRevisionNote: Stylized 3D Model Added.; DatasheetDocument: Apr-1997; PackageDocument: Mar-1999; PackageReference: TSOP32; Publisher: Altium Limited; Code_JEDEC: MO-142-BD; ComponentLink1Description: Manufacturer Link; ComponentLink1URL: http://www.st.com/
footprint TSOP32 (Shrink Small Outline, Plastic, Thin; 32 Leads; Body Width 18.4 mm; Pitch 0.5 mm)
3D model TSOP32 (Shrink Small Outline, Plastic, Thin; 32 Leads; Body Width 18.4 mm; Pitch 0.5 mm)
pins: 1 A11 (in), 2 A9 (in), 3 A8 (in), 4 A13 (in), 5 A14 (in), 6 NC, 7 ~{WE} (in), 8 VCC (power), 9 VPP (power), 10 A16 (in), 11 A15 (in), 12 A12 (in), 13 A7 (in), 14 A6 (in), 15 A5 (in), 16 A4 (in), 17 A3 (in), 18 A2 (in), 19 A1 (in), 20 A0 (in), 21 DQ0 (io), 22 DQ1 (io), 23 DQ2 (io), 24 GND (power), 25 DQ3 (io), 26 DQ4 (io), 27 DQ5 (io), 28 DQ6 (io), 29 DQ7 (io), 30 ~{CE} (in), 31 A10 (in), 32 ~{OE} (in)

## M28F101-120N6R
designator U?
1 Mbit (128K x 8, Chip Erase) Flash Memory; Published: 24-Aug-2001; LatestRevisionDate: 6-Jun-2005; LatestRevisionNote: Stylized 3D Model Added.; DatasheetDocument: Apr-1997; PackageDocument: Mar-1999; PackageReference: TSOP32; Publisher: Altium Limited; Code_JEDEC: MO-142-BD; ComponentLink1Description: Manufacturer Link; ComponentLink1URL: http://www.st.com/
footprint TSOP32 (Shrink Small Outline, Plastic, Thin; 32 Leads; Body Width 18.4 mm; Pitch 0.5 mm)
3D model TSOP32 (Shrink Small Outline, Plastic, Thin; 32 Leads; Body Width 18.4 mm; Pitch 0.5 mm)
pins: 1 ~{OE} (in), 2 A10 (in), 3 ~{CE} (in), 4 DQ7 (io), 5 DQ6 (io), 6 DQ5 (io), 7 DQ4 (io), 8 DQ3 (io), 9 GND (power), 10 DQ2 (io), 11 DQ1 (io), 12 DQ0 (io), 13 A0 (in), 14 A1 (in), 15 A2 (in), 16 A3 (in), 17 A4 (in), 18 A5 (in), 19 A6 (in), 20 A7 (in), 21 A12 (in), 22 A15 (in), 23 A16 (in), 24 VPP (power), 25 VCC (power), 26 ~{WE} (in), 27 NC, 28 A14 (in), 29 A13 (in), 30 A8 (in), 31 A9 (in), 32 A11 (in)

## M28F101-120P1
designator U?
1 Mbit (128K x 8, Chip Erase) Flash Memory; PackageDocument: 1998; Published: 24-Aug-2001; LatestRevisionDate: 6-Jun-2005; LatestRevisionNote: Stylized 3D Model Added.; DatasheetDocument: Apr-1997; PackageReference: PDIP32; Publisher: Altium Limited; ComponentLink1Description: Manufacturer Link; ComponentLink1URL: http://www.st.com/
footprint PDIP32 (DIP, Plastic; 32 Leads; Row Spacing 15.24 mm; Pitch 2.54 mm)
3D model PDIP32 (DIP, Plastic; 32 Leads; Row Spacing 15.24 mm; Pitch 2.54 mm)
pins: 1 VPP (power), 2 A16 (in), 3 A15 (in), 4 A12 (in), 5 A7 (in), 6 A6 (in), 7 A5 (in), 8 A4 (in), 9 A3 (in), 10 A2 (in), 11 A1 (in), 12 A0 (in), 13 DQ0 (io), 14 DQ1 (io), 15 DQ2 (io), 16 GND (power), 17 DQ3 (io), 18 DQ4 (io), 19 DQ5 (io), 20 DQ6 (io), 21 DQ7 (io), 22 ~{CE} (in), 23 A10 (in), 24 ~{OE} (in), 25 A11 (in), 26 A9 (in), 27 A8 (in), 28 A13 (in), 29 A14 (in), 30 NC, 31 ~{WE} (in), 32 VCC (power)

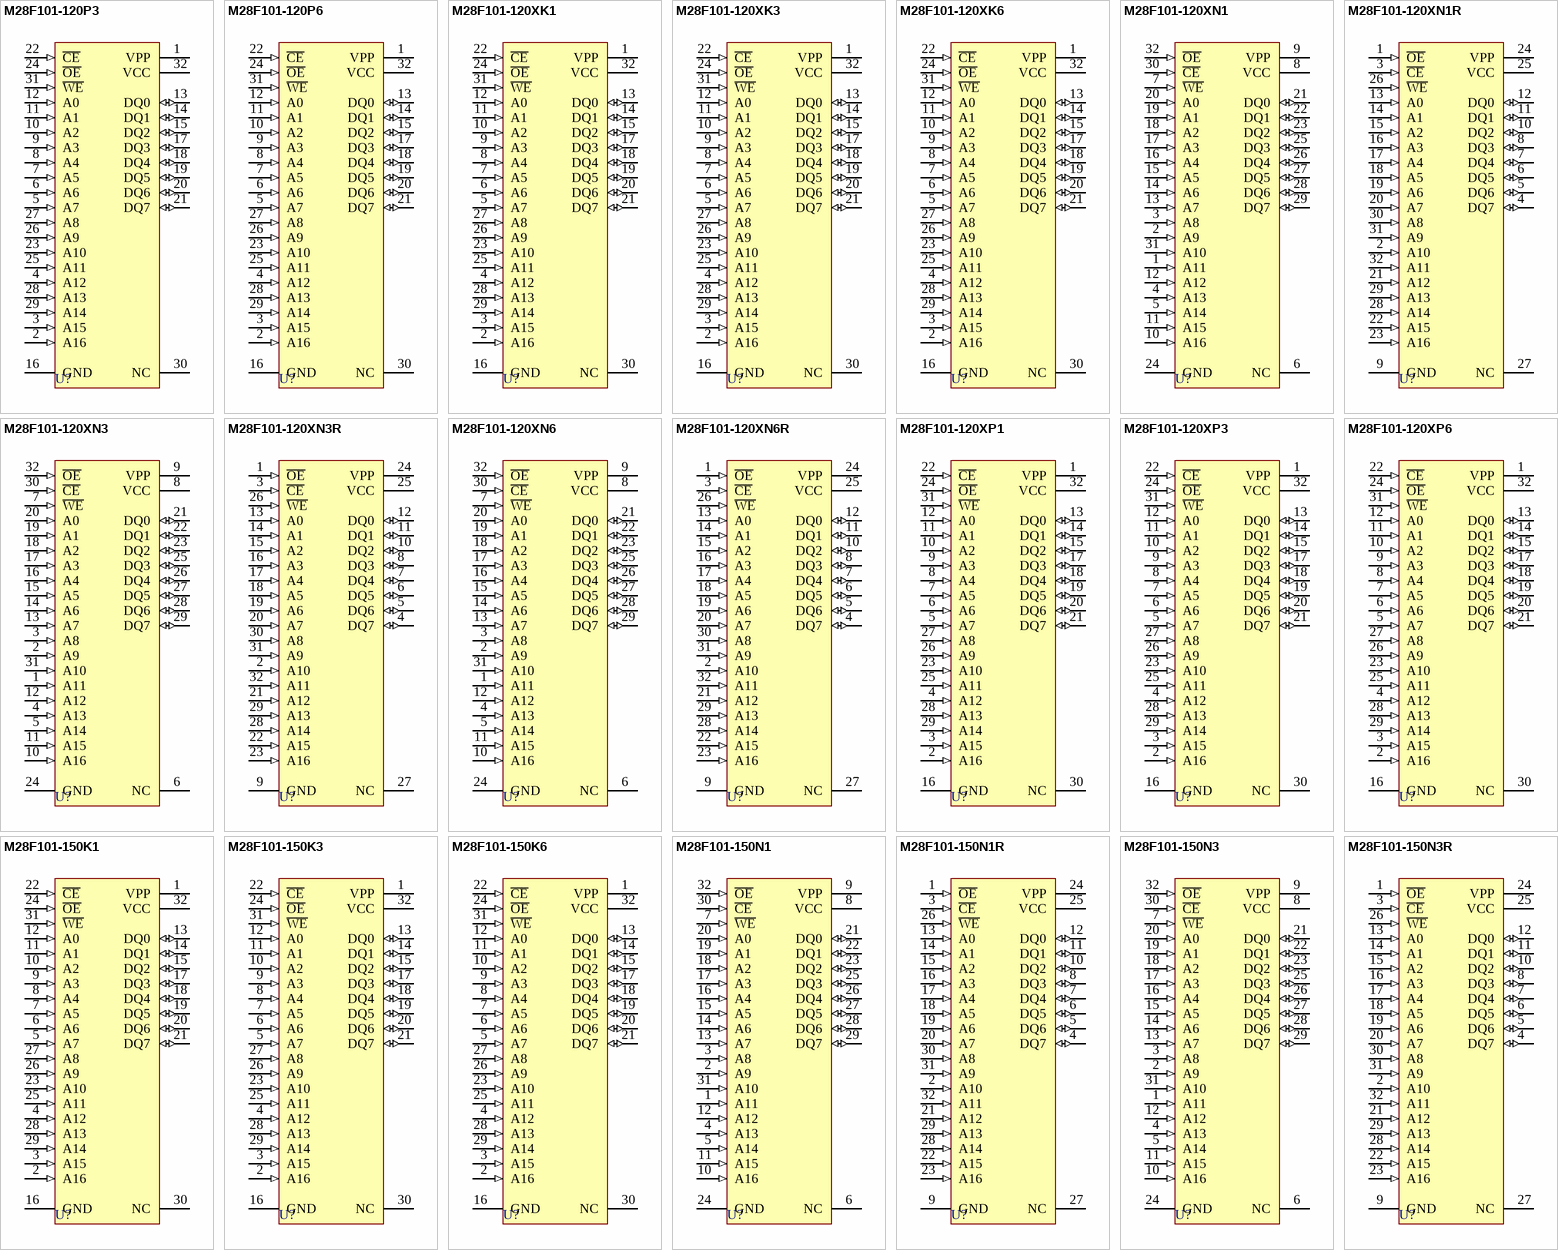
[diagram p4: symbols M28F101-120P3 to M28F101-150N3R]

## M28F101-120P3
designator U?
1 Mbit (128K x 8, Chip Erase) Flash Memory; PackageDocument: 1998; Published: 24-Aug-2001; LatestRevisionDate: 6-Jun-2005; LatestRevisionNote: Stylized 3D Model Added.; DatasheetDocument: Apr-1997; PackageReference: PDIP32; Publisher: Altium Limited; ComponentLink1Description: Manufacturer Link; ComponentLink1URL: http://www.st.com/
footprint PDIP32 (DIP, Plastic; 32 Leads; Row Spacing 15.24 mm; Pitch 2.54 mm)
3D model PDIP32 (DIP, Plastic; 32 Leads; Row Spacing 15.24 mm; Pitch 2.54 mm)
pins: 1 VPP (power), 2 A16 (in), 3 A15 (in), 4 A12 (in), 5 A7 (in), 6 A6 (in), 7 A5 (in), 8 A4 (in), 9 A3 (in), 10 A2 (in), 11 A1 (in), 12 A0 (in), 13 DQ0 (io), 14 DQ1 (io), 15 DQ2 (io), 16 GND (power), 17 DQ3 (io), 18 DQ4 (io), 19 DQ5 (io), 20 DQ6 (io), 21 DQ7 (io), 22 ~{CE} (in), 23 A10 (in), 24 ~{OE} (in), 25 A11 (in), 26 A9 (in), 27 A8 (in), 28 A13 (in), 29 A14 (in), 30 NC, 31 ~{WE} (in), 32 VCC (power)

## M28F101-120P6
designator U?
1 Mbit (128K x 8, Chip Erase) Flash Memory; PackageDocument: 1998; Published: 24-Aug-2001; LatestRevisionDate: 6-Jun-2005; LatestRevisionNote: Stylized 3D Model Added.; DatasheetDocument: Apr-1997; PackageReference: PDIP32; Publisher: Altium Limited; ComponentLink1Description: Manufacturer Link; ComponentLink1URL: http://www.st.com/
footprint PDIP32 (DIP, Plastic; 32 Leads; Row Spacing 15.24 mm; Pitch 2.54 mm)
3D model PDIP32 (DIP, Plastic; 32 Leads; Row Spacing 15.24 mm; Pitch 2.54 mm)
pins: 1 VPP (power), 2 A16 (in), 3 A15 (in), 4 A12 (in), 5 A7 (in), 6 A6 (in), 7 A5 (in), 8 A4 (in), 9 A3 (in), 10 A2 (in), 11 A1 (in), 12 A0 (in), 13 DQ0 (io), 14 DQ1 (io), 15 DQ2 (io), 16 GND (power), 17 DQ3 (io), 18 DQ4 (io), 19 DQ5 (io), 20 DQ6 (io), 21 DQ7 (io), 22 ~{CE} (in), 23 A10 (in), 24 ~{OE} (in), 25 A11 (in), 26 A9 (in), 27 A8 (in), 28 A13 (in), 29 A14 (in), 30 NC, 31 ~{WE} (in), 32 VCC (power)

## M28F101-120XK1
designator U?
1 Mbit (128K x 8, Chip Erase) Flash Memory; Published: 24-Aug-2001; LatestRevisionDate: 6-Jun-2005; LatestRevisionNote: Stylized 3D Model Added.; DatasheetDocument: Apr-1997; PackageDocument: Jun-1998; PackageReference: PLCC32; Publisher: Altium Limited; Code_JEDEC: MS-016-AE; Code_IPC: PLCC/R-32; ComponentLink1Description: Manufacturer Link; ComponentLink1URL: http://www.st.com/
footprint PLCC32 (Leaded Chip Carrier; 32 Leads; Body 11.4 x 14 mm)
3D model M28F101-PLCC32 (Leaded Chip Carrier; 32 Leads; Body 11.4 x 14 mm)
pins: 1 VPP (power), 2 A16 (in), 3 A15 (in), 4 A12 (in), 5 A7 (in), 6 A6 (in), 7 A5 (in), 8 A4 (in), 9 A3 (in), 10 A2 (in), 11 A1 (in), 12 A0 (in), 13 DQ0 (io), 14 DQ1 (io), 15 DQ2 (io), 16 GND (power), 17 DQ3 (io), 18 DQ4 (io), 19 DQ5 (io), 20 DQ6 (io), 21 DQ7 (io), 22 ~{CE} (in), 23 A10 (in), 24 ~{OE} (in), 25 A11 (in), 26 A9 (in), 27 A8 (in), 28 A13 (in), 29 A14 (in), 30 NC, 31 ~{WE} (in), 32 VCC (power)

## M28F101-120XK3
designator U?
1 Mbit (128K x 8, Chip Erase) Flash Memory; Published: 24-Aug-2001; LatestRevisionDate: 6-Jun-2005; LatestRevisionNote: Stylized 3D Model Added.; DatasheetDocument: Apr-1997; PackageDocument: Jun-1998; PackageReference: PLCC32; Publisher: Altium Limited; Code_JEDEC: MS-016-AE; Code_IPC: PLCC/R-32; ComponentLink1Description: Manufacturer Link; ComponentLink1URL: http://www.st.com/
footprint PLCC32 (Leaded Chip Carrier; 32 Leads; Body 11.4 x 14 mm)
3D model M28F101-PLCC32 (Leaded Chip Carrier; 32 Leads; Body 11.4 x 14 mm)
pins: 1 VPP (power), 2 A16 (in), 3 A15 (in), 4 A12 (in), 5 A7 (in), 6 A6 (in), 7 A5 (in), 8 A4 (in), 9 A3 (in), 10 A2 (in), 11 A1 (in), 12 A0 (in), 13 DQ0 (io), 14 DQ1 (io), 15 DQ2 (io), 16 GND (power), 17 DQ3 (io), 18 DQ4 (io), 19 DQ5 (io), 20 DQ6 (io), 21 DQ7 (io), 22 ~{CE} (in), 23 A10 (in), 24 ~{OE} (in), 25 A11 (in), 26 A9 (in), 27 A8 (in), 28 A13 (in), 29 A14 (in), 30 NC, 31 ~{WE} (in), 32 VCC (power)

## M28F101-120XK6
designator U?
1 Mbit (128K x 8, Chip Erase) Flash Memory; Published: 24-Aug-2001; LatestRevisionDate: 6-Jun-2005; LatestRevisionNote: Stylized 3D Model Added.; DatasheetDocument: Apr-1997; PackageDocument: Jun-1998; PackageReference: PLCC32; Publisher: Altium Limited; Code_JEDEC: MS-016-AE; Code_IPC: PLCC/R-32; ComponentLink1Description: Manufacturer Link; ComponentLink1URL: http://www.st.com/
footprint PLCC32 (Leaded Chip Carrier; 32 Leads; Body 11.4 x 14 mm)
3D model M28F101-PLCC32 (Leaded Chip Carrier; 32 Leads; Body 11.4 x 14 mm)
pins: 1 VPP (power), 2 A16 (in), 3 A15 (in), 4 A12 (in), 5 A7 (in), 6 A6 (in), 7 A5 (in), 8 A4 (in), 9 A3 (in), 10 A2 (in), 11 A1 (in), 12 A0 (in), 13 DQ0 (io), 14 DQ1 (io), 15 DQ2 (io), 16 GND (power), 17 DQ3 (io), 18 DQ4 (io), 19 DQ5 (io), 20 DQ6 (io), 21 DQ7 (io), 22 ~{CE} (in), 23 A10 (in), 24 ~{OE} (in), 25 A11 (in), 26 A9 (in), 27 A8 (in), 28 A13 (in), 29 A14 (in), 30 NC, 31 ~{WE} (in), 32 VCC (power)

## M28F101-120XN1
designator U?
1 Mbit (128K x 8, Chip Erase) Flash Memory; Published: 24-Aug-2001; LatestRevisionDate: 6-Jun-2005; LatestRevisionNote: Stylized 3D Model Added.; DatasheetDocument: Apr-1997; PackageDocument: Mar-1999; PackageReference: TSOP32; Publisher: Altium Limited; Code_JEDEC: MO-142-BD; ComponentLink1Description: Manufacturer Link; ComponentLink1URL: http://www.st.com/
footprint TSOP32 (Shrink Small Outline, Plastic, Thin; 32 Leads; Body Width 18.4 mm; Pitch 0.5 mm)
3D model TSOP32 (Shrink Small Outline, Plastic, Thin; 32 Leads; Body Width 18.4 mm; Pitch 0.5 mm)
pins: 1 A11 (in), 2 A9 (in), 3 A8 (in), 4 A13 (in), 5 A14 (in), 6 NC, 7 ~{WE} (in), 8 VCC (power), 9 VPP (power), 10 A16 (in), 11 A15 (in), 12 A12 (in), 13 A7 (in), 14 A6 (in), 15 A5 (in), 16 A4 (in), 17 A3 (in), 18 A2 (in), 19 A1 (in), 20 A0 (in), 21 DQ0 (io), 22 DQ1 (io), 23 DQ2 (io), 24 GND (power), 25 DQ3 (io), 26 DQ4 (io), 27 DQ5 (io), 28 DQ6 (io), 29 DQ7 (io), 30 ~{CE} (in), 31 A10 (in), 32 ~{OE} (in)

## M28F101-120XN1R
designator U?
1 Mbit (128K x 8, Chip Erase) Flash Memory; Published: 24-Aug-2001; LatestRevisionDate: 6-Jun-2005; LatestRevisionNote: Stylized 3D Model Added.; DatasheetDocument: Apr-1997; PackageDocument: Mar-1999; PackageReference: TSOP32; Publisher: Altium Limited; Code_JEDEC: MO-142-BD; ComponentLink1Description: Manufacturer Link; ComponentLink1URL: http://www.st.com/
footprint TSOP32 (Shrink Small Outline, Plastic, Thin; 32 Leads; Body Width 18.4 mm; Pitch 0.5 mm)
3D model TSOP32 (Shrink Small Outline, Plastic, Thin; 32 Leads; Body Width 18.4 mm; Pitch 0.5 mm)
pins: 1 ~{OE} (in), 2 A10 (in), 3 ~{CE} (in), 4 DQ7 (io), 5 DQ6 (io), 6 DQ5 (io), 7 DQ4 (io), 8 DQ3 (io), 9 GND (power), 10 DQ2 (io), 11 DQ1 (io), 12 DQ0 (io), 13 A0 (in), 14 A1 (in), 15 A2 (in), 16 A3 (in), 17 A4 (in), 18 A5 (in), 19 A6 (in), 20 A7 (in), 21 A12 (in), 22 A15 (in), 23 A16 (in), 24 VPP (power), 25 VCC (power), 26 ~{WE} (in), 27 NC, 28 A14 (in), 29 A13 (in), 30 A8 (in), 31 A9 (in), 32 A11 (in)

## M28F101-120XN3
designator U?
1 Mbit (128K x 8, Chip Erase) Flash Memory; Published: 24-Aug-2001; LatestRevisionDate: 6-Jun-2005; LatestRevisionNote: Stylized 3D Model Added.; DatasheetDocument: Apr-1997; PackageDocument: Mar-1999; PackageReference: TSOP32; Publisher: Altium Limited; Code_JEDEC: MO-142-BD; ComponentLink1Description: Manufacturer Link; ComponentLink1URL: http://www.st.com/
footprint TSOP32 (Shrink Small Outline, Plastic, Thin; 32 Leads; Body Width 18.4 mm; Pitch 0.5 mm)
3D model TSOP32 (Shrink Small Outline, Plastic, Thin; 32 Leads; Body Width 18.4 mm; Pitch 0.5 mm)
pins: 1 A11 (in), 2 A9 (in), 3 A8 (in), 4 A13 (in), 5 A14 (in), 6 NC, 7 ~{WE} (in), 8 VCC (power), 9 VPP (power), 10 A16 (in), 11 A15 (in), 12 A12 (in), 13 A7 (in), 14 A6 (in), 15 A5 (in), 16 A4 (in), 17 A3 (in), 18 A2 (in), 19 A1 (in), 20 A0 (in), 21 DQ0 (io), 22 DQ1 (io), 23 DQ2 (io), 24 GND (power), 25 DQ3 (io), 26 DQ4 (io), 27 DQ5 (io), 28 DQ6 (io), 29 DQ7 (io), 30 ~{CE} (in), 31 A10 (in), 32 ~{OE} (in)

## M28F101-120XN3R
designator U?
1 Mbit (128K x 8, Chip Erase) Flash Memory; Published: 24-Aug-2001; LatestRevisionDate: 6-Jun-2005; LatestRevisionNote: Stylized 3D Model Added.; DatasheetDocument: Apr-1997; PackageDocument: Mar-1999; PackageReference: TSOP32; Publisher: Altium Limited; Code_JEDEC: MO-142-BD; ComponentLink1Description: Manufacturer Link; ComponentLink1URL: http://www.st.com/
footprint TSOP32 (Shrink Small Outline, Plastic, Thin; 32 Leads; Body Width 18.4 mm; Pitch 0.5 mm)
3D model TSOP32 (Shrink Small Outline, Plastic, Thin; 32 Leads; Body Width 18.4 mm; Pitch 0.5 mm)
pins: 1 ~{OE} (in), 2 A10 (in), 3 ~{CE} (in), 4 DQ7 (io), 5 DQ6 (io), 6 DQ5 (io), 7 DQ4 (io), 8 DQ3 (io), 9 GND (power), 10 DQ2 (io), 11 DQ1 (io), 12 DQ0 (io), 13 A0 (in), 14 A1 (in), 15 A2 (in), 16 A3 (in), 17 A4 (in), 18 A5 (in), 19 A6 (in), 20 A7 (in), 21 A12 (in), 22 A15 (in), 23 A16 (in), 24 VPP (power), 25 VCC (power), 26 ~{WE} (in), 27 NC, 28 A14 (in), 29 A13 (in), 30 A8 (in), 31 A9 (in), 32 A11 (in)

## M28F101-120XN6
designator U?
1 Mbit (128K x 8, Chip Erase) Flash Memory; Published: 24-Aug-2001; LatestRevisionDate: 6-Jun-2005; LatestRevisionNote: Stylized 3D Model Added.; DatasheetDocument: Apr-1997; PackageDocument: Mar-1999; PackageReference: TSOP32; Publisher: Altium Limited; Code_JEDEC: MO-142-BD; ComponentLink1Description: Manufacturer Link; ComponentLink1URL: http://www.st.com/
footprint TSOP32 (Shrink Small Outline, Plastic, Thin; 32 Leads; Body Width 18.4 mm; Pitch 0.5 mm)
3D model TSOP32 (Shrink Small Outline, Plastic, Thin; 32 Leads; Body Width 18.4 mm; Pitch 0.5 mm)
pins: 1 A11 (in), 2 A9 (in), 3 A8 (in), 4 A13 (in), 5 A14 (in), 6 NC, 7 ~{WE} (in), 8 VCC (power), 9 VPP (power), 10 A16 (in), 11 A15 (in), 12 A12 (in), 13 A7 (in), 14 A6 (in), 15 A5 (in), 16 A4 (in), 17 A3 (in), 18 A2 (in), 19 A1 (in), 20 A0 (in), 21 DQ0 (io), 22 DQ1 (io), 23 DQ2 (io), 24 GND (power), 25 DQ3 (io), 26 DQ4 (io), 27 DQ5 (io), 28 DQ6 (io), 29 DQ7 (io), 30 ~{CE} (in), 31 A10 (in), 32 ~{OE} (in)

## M28F101-120XN6R
designator U?
1 Mbit (128K x 8, Chip Erase) Flash Memory; Published: 24-Aug-2001; LatestRevisionDate: 6-Jun-2005; LatestRevisionNote: Stylized 3D Model Added.; DatasheetDocument: Apr-1997; PackageDocument: Mar-1999; PackageReference: TSOP32; Publisher: Altium Limited; Code_JEDEC: MO-142-BD; ComponentLink1Description: Manufacturer Link; ComponentLink1URL: http://www.st.com/
footprint TSOP32 (Shrink Small Outline, Plastic, Thin; 32 Leads; Body Width 18.4 mm; Pitch 0.5 mm)
3D model TSOP32 (Shrink Small Outline, Plastic, Thin; 32 Leads; Body Width 18.4 mm; Pitch 0.5 mm)
pins: 1 ~{OE} (in), 2 A10 (in), 3 ~{CE} (in), 4 DQ7 (io), 5 DQ6 (io), 6 DQ5 (io), 7 DQ4 (io), 8 DQ3 (io), 9 GND (power), 10 DQ2 (io), 11 DQ1 (io), 12 DQ0 (io), 13 A0 (in), 14 A1 (in), 15 A2 (in), 16 A3 (in), 17 A4 (in), 18 A5 (in), 19 A6 (in), 20 A7 (in), 21 A12 (in), 22 A15 (in), 23 A16 (in), 24 VPP (power), 25 VCC (power), 26 ~{WE} (in), 27 NC, 28 A14 (in), 29 A13 (in), 30 A8 (in), 31 A9 (in), 32 A11 (in)

## M28F101-120XP1
designator U?
1 Mbit (128K x 8, Chip Erase) Flash Memory; PackageDocument: 1998; Published: 24-Aug-2001; LatestRevisionDate: 6-Jun-2005; LatestRevisionNote: Stylized 3D Model Added.; DatasheetDocument: Apr-1997; PackageReference: PDIP32; Publisher: Altium Limited; ComponentLink1Description: Manufacturer Link; ComponentLink1URL: http://www.st.com/
footprint PDIP32 (DIP, Plastic; 32 Leads; Row Spacing 15.24 mm; Pitch 2.54 mm)
3D model PDIP32 (DIP, Plastic; 32 Leads; Row Spacing 15.24 mm; Pitch 2.54 mm)
pins: 1 VPP (power), 2 A16 (in), 3 A15 (in), 4 A12 (in), 5 A7 (in), 6 A6 (in), 7 A5 (in), 8 A4 (in), 9 A3 (in), 10 A2 (in), 11 A1 (in), 12 A0 (in), 13 DQ0 (io), 14 DQ1 (io), 15 DQ2 (io), 16 GND (power), 17 DQ3 (io), 18 DQ4 (io), 19 DQ5 (io), 20 DQ6 (io), 21 DQ7 (io), 22 ~{CE} (in), 23 A10 (in), 24 ~{OE} (in), 25 A11 (in), 26 A9 (in), 27 A8 (in), 28 A13 (in), 29 A14 (in), 30 NC, 31 ~{WE} (in), 32 VCC (power)

## M28F101-120XP3
designator U?
1 Mbit (128K x 8, Chip Erase) Flash Memory; PackageDocument: 1998; Published: 24-Aug-2001; LatestRevisionDate: 6-Jun-2005; LatestRevisionNote: Stylized 3D Model Added.; DatasheetDocument: Apr-1997; PackageReference: PDIP32; Publisher: Altium Limited; ComponentLink1Description: Manufacturer Link; ComponentLink1URL: http://www.st.com/
footprint PDIP32 (DIP, Plastic; 32 Leads; Row Spacing 15.24 mm; Pitch 2.54 mm)
3D model PDIP32 (DIP, Plastic; 32 Leads; Row Spacing 15.24 mm; Pitch 2.54 mm)
pins: 1 VPP (power), 2 A16 (in), 3 A15 (in), 4 A12 (in), 5 A7 (in), 6 A6 (in), 7 A5 (in), 8 A4 (in), 9 A3 (in), 10 A2 (in), 11 A1 (in), 12 A0 (in), 13 DQ0 (io), 14 DQ1 (io), 15 DQ2 (io), 16 GND (power), 17 DQ3 (io), 18 DQ4 (io), 19 DQ5 (io), 20 DQ6 (io), 21 DQ7 (io), 22 ~{CE} (in), 23 A10 (in), 24 ~{OE} (in), 25 A11 (in), 26 A9 (in), 27 A8 (in), 28 A13 (in), 29 A14 (in), 30 NC, 31 ~{WE} (in), 32 VCC (power)

## M28F101-120XP6
designator U?
1 Mbit (128K x 8, Chip Erase) Flash Memory; PackageDocument: 1998; Published: 24-Aug-2001; LatestRevisionDate: 6-Jun-2005; LatestRevisionNote: Stylized 3D Model Added.; DatasheetDocument: Apr-1997; PackageReference: PDIP32; Publisher: Altium Limited; ComponentLink1Description: Manufacturer Link; ComponentLink1URL: http://www.st.com/
footprint PDIP32 (DIP, Plastic; 32 Leads; Row Spacing 15.24 mm; Pitch 2.54 mm)
3D model PDIP32 (DIP, Plastic; 32 Leads; Row Spacing 15.24 mm; Pitch 2.54 mm)
pins: 1 VPP (power), 2 A16 (in), 3 A15 (in), 4 A12 (in), 5 A7 (in), 6 A6 (in), 7 A5 (in), 8 A4 (in), 9 A3 (in), 10 A2 (in), 11 A1 (in), 12 A0 (in), 13 DQ0 (io), 14 DQ1 (io), 15 DQ2 (io), 16 GND (power), 17 DQ3 (io), 18 DQ4 (io), 19 DQ5 (io), 20 DQ6 (io), 21 DQ7 (io), 22 ~{CE} (in), 23 A10 (in), 24 ~{OE} (in), 25 A11 (in), 26 A9 (in), 27 A8 (in), 28 A13 (in), 29 A14 (in), 30 NC, 31 ~{WE} (in), 32 VCC (power)

## M28F101-150K1
designator U?
1 Mbit (128K x 8, Chip Erase) Flash Memory; Published: 24-Aug-2001; LatestRevisionDate: 6-Jun-2005; LatestRevisionNote: Stylized 3D Model Added.; DatasheetDocument: Apr-1997; PackageDocument: Jun-1998; PackageReference: PLCC32; Publisher: Altium Limited; Code_JEDEC: MS-016-AE; Code_IPC: PLCC/R-32; ComponentLink1Description: Manufacturer Link; ComponentLink1URL: http://www.st.com/
footprint PLCC32 (Leaded Chip Carrier; 32 Leads; Body 11.4 x 14 mm)
3D model M28F101-PLCC32 (Leaded Chip Carrier; 32 Leads; Body 11.4 x 14 mm)
pins: 1 VPP (power), 2 A16 (in), 3 A15 (in), 4 A12 (in), 5 A7 (in), 6 A6 (in), 7 A5 (in), 8 A4 (in), 9 A3 (in), 10 A2 (in), 11 A1 (in), 12 A0 (in), 13 DQ0 (io), 14 DQ1 (io), 15 DQ2 (io), 16 GND (power), 17 DQ3 (io), 18 DQ4 (io), 19 DQ5 (io), 20 DQ6 (io), 21 DQ7 (io), 22 ~{CE} (in), 23 A10 (in), 24 ~{OE} (in), 25 A11 (in), 26 A9 (in), 27 A8 (in), 28 A13 (in), 29 A14 (in), 30 NC, 31 ~{WE} (in), 32 VCC (power)

## M28F101-150K3
designator U?
1 Mbit (128K x 8, Chip Erase) Flash Memory; Published: 24-Aug-2001; LatestRevisionDate: 6-Jun-2005; LatestRevisionNote: Stylized 3D Model Added.; DatasheetDocument: Apr-1997; PackageDocument: Jun-1998; PackageReference: PLCC32; Publisher: Altium Limited; Code_JEDEC: MS-016-AE; Code_IPC: PLCC/R-32; ComponentLink1Description: Manufacturer Link; ComponentLink1URL: http://www.st.com/
footprint PLCC32 (Leaded Chip Carrier; 32 Leads; Body 11.4 x 14 mm)
3D model M28F101-PLCC32 (Leaded Chip Carrier; 32 Leads; Body 11.4 x 14 mm)
pins: 1 VPP (power), 2 A16 (in), 3 A15 (in), 4 A12 (in), 5 A7 (in), 6 A6 (in), 7 A5 (in), 8 A4 (in), 9 A3 (in), 10 A2 (in), 11 A1 (in), 12 A0 (in), 13 DQ0 (io), 14 DQ1 (io), 15 DQ2 (io), 16 GND (power), 17 DQ3 (io), 18 DQ4 (io), 19 DQ5 (io), 20 DQ6 (io), 21 DQ7 (io), 22 ~{CE} (in), 23 A10 (in), 24 ~{OE} (in), 25 A11 (in), 26 A9 (in), 27 A8 (in), 28 A13 (in), 29 A14 (in), 30 NC, 31 ~{WE} (in), 32 VCC (power)

## M28F101-150K6
designator U?
1 Mbit (128K x 8, Chip Erase) Flash Memory; Published: 24-Aug-2001; LatestRevisionDate: 6-Jun-2005; LatestRevisionNote: Stylized 3D Model Added.; DatasheetDocument: Apr-1997; PackageDocument: Jun-1998; PackageReference: PLCC32; Publisher: Altium Limited; Code_JEDEC: MS-016-AE; Code_IPC: PLCC/R-32; ComponentLink1Description: Manufacturer Link; ComponentLink1URL: http://www.st.com/
footprint PLCC32 (Leaded Chip Carrier; 32 Leads; Body 11.4 x 14 mm)
3D model M28F101-PLCC32 (Leaded Chip Carrier; 32 Leads; Body 11.4 x 14 mm)
pins: 1 VPP (power), 2 A16 (in), 3 A15 (in), 4 A12 (in), 5 A7 (in), 6 A6 (in), 7 A5 (in), 8 A4 (in), 9 A3 (in), 10 A2 (in), 11 A1 (in), 12 A0 (in), 13 DQ0 (io), 14 DQ1 (io), 15 DQ2 (io), 16 GND (power), 17 DQ3 (io), 18 DQ4 (io), 19 DQ5 (io), 20 DQ6 (io), 21 DQ7 (io), 22 ~{CE} (in), 23 A10 (in), 24 ~{OE} (in), 25 A11 (in), 26 A9 (in), 27 A8 (in), 28 A13 (in), 29 A14 (in), 30 NC, 31 ~{WE} (in), 32 VCC (power)